# EAGLE library part STA013 (library dooba)
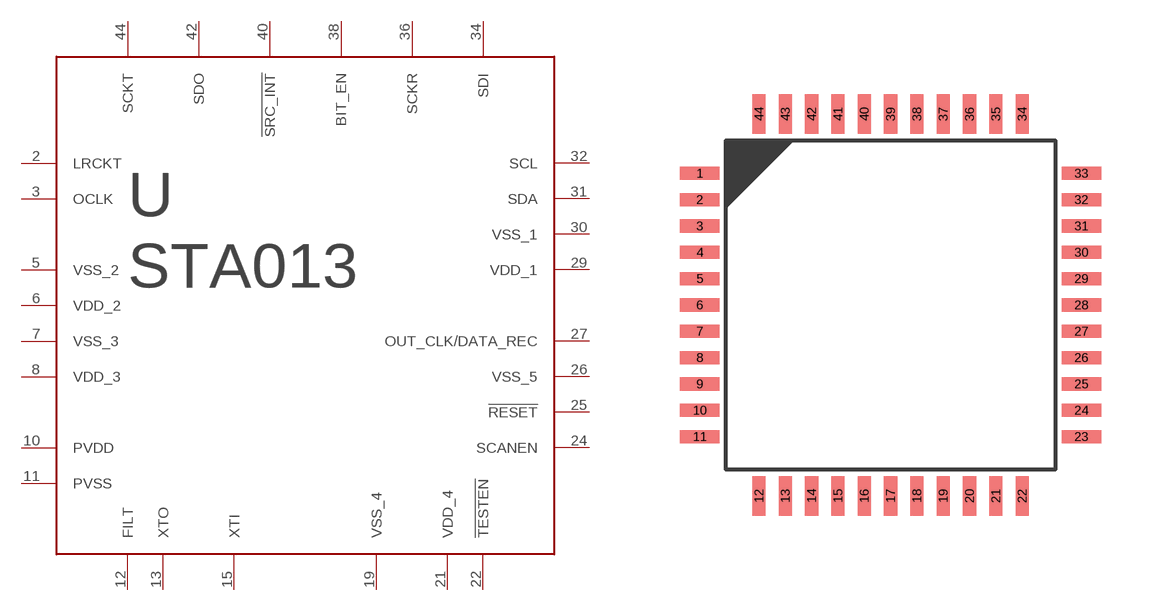
[diagram p21: symbol with the pads of QFP44; footprint QFP44]

Designator prefix U

## STA013LQFP44  [QFP44]
2  LRCKT
3  OCLK
5  VSS_2
6  VDD_2
7  VSS_3
8  VDD_3
10  PVDD
11  PVSS
12  FILT
13  XTO
15  XTI
19  VSS_4
21  VDD_4
22  !TESTEN
24  SCANEN
25  !RESET
26  VSS_5
27  OUT_CLK/DATA_REC
29  VDD_1
30  VSS_1
31  SDA
32  SCL
34  SDI
36  SCKR
38  BIT_EN
40  !SRC_INT
42  SDO
44  SCKT

## Footprint QFP44 (pad centres in mm)
smd 1.2 x 0.4: 1 -5.8,4; 2 -5.8,3.2; 3 -5.8,2.4; 4 -5.8,1.6; 5 -5.8,0.8; 6 -5.8,0; 7 -5.8,-0.8; 8 -5.8,-1.6; 9 -5.8,-2.4; 10 -5.8,-3.2; 11 -5.8,-4; 23 5.8,-4; 24 5.8,-3.2; 25 5.8,-2.4; 26 5.8,-1.6; 27 5.8,-0.8; 28 5.8,0; 29 5.8,0.8; 30 5.8,1.6; 31 5.8,2.4; 32 5.8,3.2; 33 5.8,4
smd 0.4 x 1.2: 12 -4,-5.8; 13 -3.2,-5.8; 14 -2.4,-5.8; 15 -1.6,-5.8; 16 -0.8,-5.8; 17 0,-5.8; 18 0.8,-5.8; 19 1.6,-5.8; 20 2.4,-5.8; 21 3.2,-5.8; 22 4,-5.8; 34 4,5.8; 35 3.2,5.8; 36 2.4,5.8; 37 1.6,5.8; 38 0.8,5.8; 39 0,5.8; 40 -0.8,5.8; 41 -1.6,5.8; 42 -2.4,5.8; 43 -3.2,5.8; 44 -4,5.8